# EAGLE library part PADBANK7 (library WiFiPicoDMX_RevA_used)
Diagnostic SMD pad bank
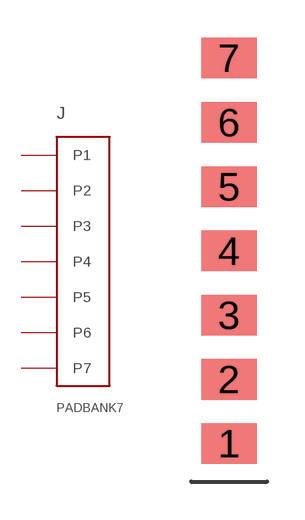
[diagram p2: symbol with the pads of PADBANK7; footprint PADBANK7]

Designator prefix J

## PADBANK7  [PADBANK7]
1  P1  pas
2  P2  pas
3  P3  pas
4  P4  pas
5  P5  pas
6  P6  pas
7  P7  pas

## Footprint PADBANK7 (pad centres in mm)
smd 2.2 x 1.6: 1 0,-7.62; 2 0,-5.08; 3 0,-2.54; 4 0,0; 5 0,2.54; 6 0,5.08; 7 0,7.62